# Altium schematic symbol library SCH - MCU - INFINEON XMC - INFINEON XMC1401F064.SchLib: 1 symbol
Pins are listed as number, name and electrical type; pins without a type are passive.

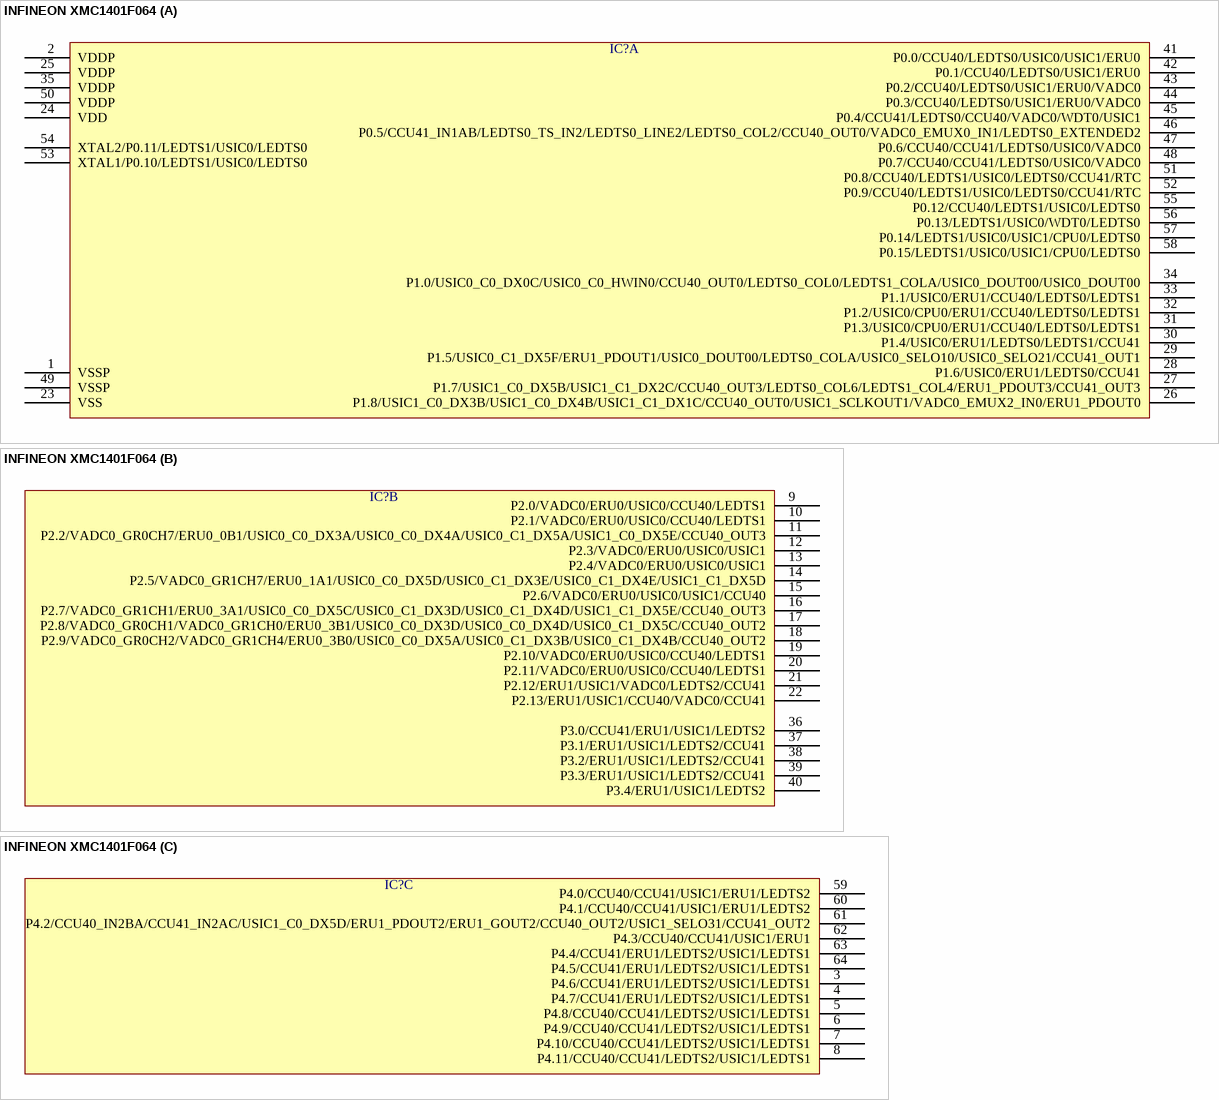
[diagram p0: symbol INFINEON XMC1401F064]

## INFINEON XMC1401F064
designator IC?  (value not drawn)
part A pins: 1 VSSP, 2 VDDP, 23 VSS, 24 VDD, 25 VDDP, 26 P1.8/USIC1_C0_DX3B/USIC1_C0_DX4B/USIC1_C1_DX1C/CCU40_OUT0/USIC1_SCLKOUT1/VADC0_EMUX2_IN0/ERU1_PDOUT0, 27 P1.7/USIC1_C0_DX5B/USIC1_C1_DX2C/CCU40_OUT3/LEDTS0_COL6/LEDTS1_COL4/ERU1_PDOUT3/CCU41_OUT3, 28 P1.6/USIC0/ERU1/LEDTS0/CCU41, 29 P1.5/USIC0_C1_DX5F/ERU1_PDOUT1/USIC0_DOUT00/LEDTS0_COLA/USIC0_SELO10/USIC0_SELO21/CCU41_OUT1, 30 P1.4/USIC0/ERU1/LEDTS0/LEDTS1/CCU41, 31 P1.3/USIC0/CPU0/ERU1/CCU40/LEDTS0/LEDTS1, 32 P1.2/USIC0/CPU0/ERU1/CCU40/LEDTS0/LEDTS1, 33 P1.1/USIC0/ERU1/CCU40/LEDTS0/LEDTS1, 34 P1.0/USIC0_C0_DX0C/USIC0_C0_HWIN0/CCU40_OUT0/LEDTS0_COL0/LEDTS1_COLA/USIC0_DOUT00/USIC0_DOUT00, 35 VDDP, 41 P0.0/CCU40/LEDTS0/USIC0/USIC1/ERU0, 42 P0.1/CCU40/LEDTS0/USIC1/ERU0, 43 P0.2/CCU40/LEDTS0/USIC1/ERU0/VADC0, 44 P0.3/CCU40/LEDTS0/USIC1/ERU0/VADC0, 45 P0.4/CCU41/LEDTS0/CCU40/VADC0/WDT0/USIC1, 46 P0.5/CCU41_IN1AB/LEDTS0_TS_IN2/LEDTS0_LINE2/LEDTS0_COL2/CCU40_OUT0/VADC0_EMUX0_IN1/LEDTS0_EXTENDED2, 47 P0.6/CCU40/CCU41/LEDTS0/USIC0/VADC0, 48 P0.7/CCU40/CCU41/LEDTS0/USIC0/VADC0, 49 VSSP, 50 VDDP, 51 P0.8/CCU40/LEDTS1/USIC0/LEDTS0/CCU41/RTC, 52 P0.9/CCU40/LEDTS1/USIC0/LEDTS0/CCU41/RTC, 53 XTAL1/P0.10/LEDTS1/USIC0/LEDTS0, 54 XTAL2/P0.11/LEDTS1/USIC0/LEDTS0, 55 P0.12/CCU40/LEDTS1/USIC0/LEDTS0, 56 P0.13/LEDTS1/USIC0/WDT0/LEDTS0, 57 P0.14/LEDTS1/USIC0/USIC1/CPU0/LEDTS0, 58 P0.15/LEDTS1/USIC0/USIC1/CPU0/LEDTS0
part B pins: 9 P2.0/VADC0/ERU0/USIC0/CCU40/LEDTS1, 10 P2.1/VADC0/ERU0/USIC0/CCU40/LEDTS1, 11 P2.2/VADC0_GR0CH7/ERU0_0B1/USIC0_C0_DX3A/USIC0_C0_DX4A/USIC0_C1_DX5A/USIC1_C0_DX5E/CCU40_OUT3, 12 P2.3/VADC0/ERU0/USIC0/USIC1, 13 P2.4/VADC0/ERU0/USIC0/USIC1, 14 P2.5/VADC0_GR1CH7/ERU0_1A1/USIC0_C0_DX5D/USIC0_C1_DX3E/USIC0_C1_DX4E/USIC1_C1_DX5D, 15 P2.6/VADC0/ERU0/USIC0/USIC1/CCU40, 16 P2.7/VADC0_GR1CH1/ERU0_3A1/USIC0_C0_DX5C/USIC0_C1_DX3D/USIC0_C1_DX4D/USIC1_C1_DX5E/CCU40_OUT3, 17 P2.8/VADC0_GR0CH1/VADC0_GR1CH0/ERU0_3B1/USIC0_C0_DX3D/USIC0_C0_DX4D/USIC0_C1_DX5C/CCU40_OUT2, 18 P2.9/VADC0_GR0CH2/VADC0_GR1CH4/ERU0_3B0/USIC0_C0_DX5A/USIC0_C1_DX3B/USIC0_C1_DX4B/CCU40_OUT2, 19 P2.10/VADC0/ERU0/USIC0/CCU40/LEDTS1, 20 P2.11/VADC0/ERU0/USIC0/CCU40/LEDTS1, 21 P2.12/ERU1/USIC1/VADC0/LEDTS2/CCU41, 22 P2.13/ERU1/USIC1/CCU40/VADC0/CCU41, 36 P3.0/CCU41/ERU1/USIC1/LEDTS2, 37 P3.1/ERU1/USIC1/LEDTS2/CCU41, 38 P3.2/ERU1/USIC1/LEDTS2/CCU41, 39 P3.3/ERU1/USIC1/LEDTS2/CCU41, 40 P3.4/ERU1/USIC1/LEDTS2
part C pins: 3 P4.6/CCU41/ERU1/LEDTS2/USIC1/LEDTS1, 4 P4.7/CCU41/ERU1/LEDTS2/USIC1/LEDTS1, 5 P4.8/CCU40/CCU41/LEDTS2/USIC1/LEDTS1, 6 P4.9/CCU40/CCU41/LEDTS2/USIC1/LEDTS1, 7 P4.10/CCU40/CCU41/LEDTS2/USIC1/LEDTS1, 8 P4.11/CCU40/CCU41/LEDTS2/USIC1/LEDTS1, 59 P4.0/CCU40/CCU41/USIC1/ERU1/LEDTS2, 60 P4.1/CCU40/CCU41/USIC1/ERU1/LEDTS2, 61 P4.2/CCU40_IN2BA/CCU41_IN2AC/USIC1_C0_DX5D/ERU1_PDOUT2/ERU1_GOUT2/CCU40_OUT2/USIC1_SELO31/CCU41_OUT2, 62 P4.3/CCU40/CCU41/USIC1/ERU1, 63 P4.4/CCU41/ERU1/LEDTS2/USIC1/LEDTS1, 64 P4.5/CCU41/ERU1/LEDTS2/USIC1/LEDTS1